# EAGLE library part BD611F (library myFab)
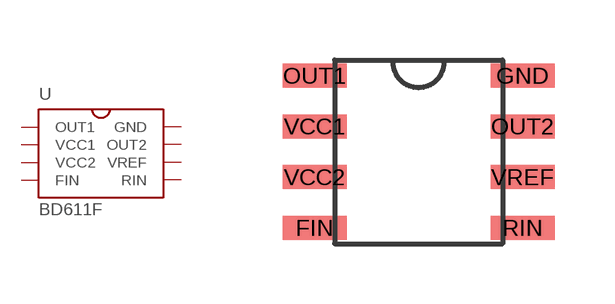
[diagram p3: symbol with the pads of SOP8_BD6211F; footprint SOP8_BD6211F]

Designator prefix -

## BD611F  [SOP8_BD6211F]
FIN  FIN  in
GND  GND  pwr
OUT1  OUT1  out
OUT2  OUT2  out
RIN  RIN  in
VCC1  VCC1  pwr
VCC2  VCC2  pwr
VREF  VREF  pas

## Footprint SOP8_BD6211F (pad centres in mm)
SOP8 Source: http://www.rohm.com/products/databook/motor/pdf/bd623x_series-e.pdf
smd 1.6 x 0.6: FIN -2.6,-1.905; GND 2.6,1.905; OUT1 -2.6,1.905; OUT2 2.6,0.635; RIN 2.6,-1.905; VCC1 -2.6,0.635; VCC2 -2.6,-0.635; VREF 2.6,-0.635